# Altium schematic symbol library vitech_opto.SchLib: 1 symbol
Pins are listed as number, name and electrical type; pins without a type are passive.

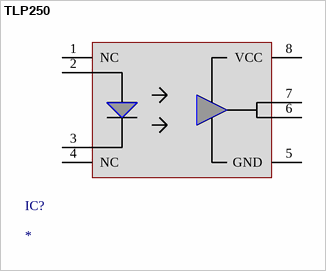
[diagram p0: symbol TLP250]

## TLP250
designator IC?
Integrated Circuit; Manufacturer_Name: Toshiba; Manufacturer_Part_Number: TLP250(F); Datasheet Link: https://pdf.voron.ua/files/pdf/optopara/tlp250.pdf; Height: 4.85mm; Mouser Part Number: 757-TLP250(F); Mouser Price/Stock: https://www.mouser.co.uk/ProductDetail/Toshiba/TLP250F?qs=f0GatGUIxV2cDxQrFeprhQ%3D%3D; Arrow Part Number: TLP250(F); Arrow Price/Stock: https://www.arrow.com/en/products/tlp250-f/toshiba
footprint DIP-8
pins: 1 NC, 2 A, 3 C, 4 NC, 5 GND, 6 VO_(OUTPUT), 7 VO, 8 VCC